# Altium schematic symbol library IDCConnectors.SchLib: 11 symbols
Pins are listed as number, name and electrical type; pins without a type are passive.

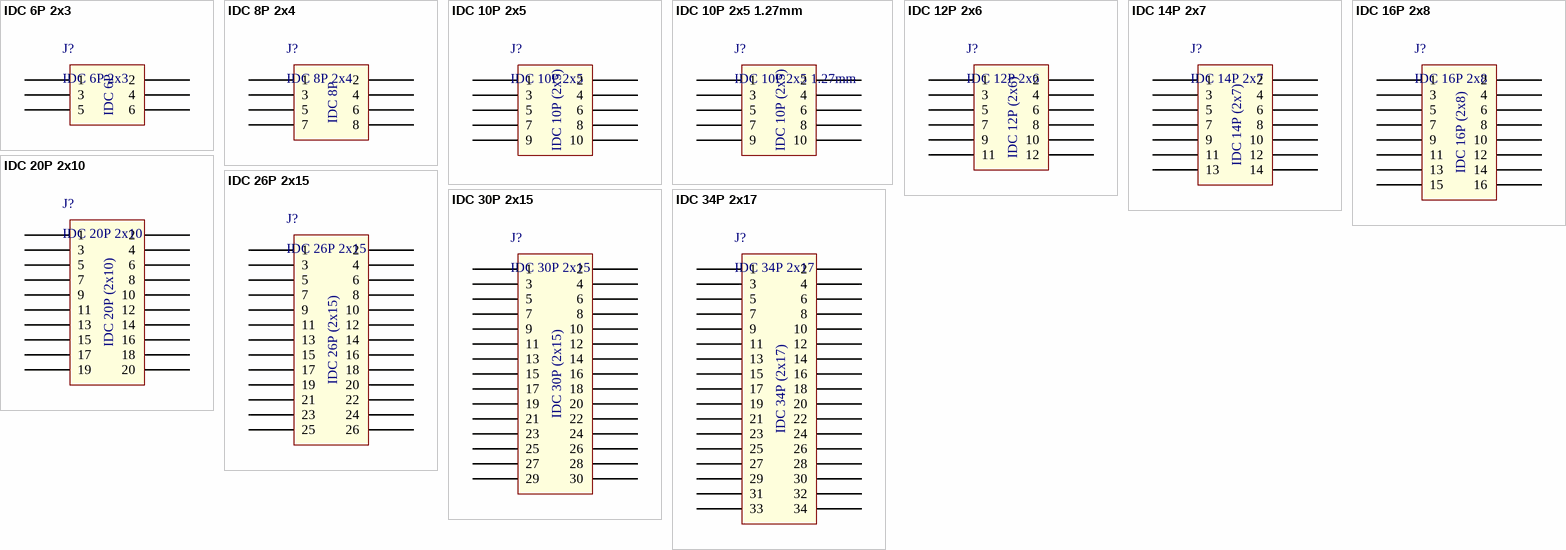
[diagram p0: symbols IDC 6P 2x3 to IDC 34P 2x17]

## IDC 6P 2x3
designator J?
footprint IDC 2.54MM 6P
pins: 1, 2, 3, 4, 5, 6
text: IDC 6P

## IDC 8P 2x4
designator J?
footprint IDC 2.54MM 8P
pins: 1, 2, 3, 4, 5, 6, 7, 8
text: IDC 8P

## IDC 10P 2x5
designator J?
footprint IDC 2.54MM 10P
pins: 1, 2, 3, 4, 5, 6, 7, 8, 9, 10
text: IDC 10P (2x5)

## IDC 10P 2x5 1.27mm
designator J?
footprint IDC 1.27MM 10P
pins: 1, 2, 3, 4, 5, 6, 7, 8, 9, 10
text: IDC 10P (2x5)

## IDC 12P 2x6
designator J?
pins: 1, 2, 3, 4, 5, 6, 7, 8, 9, 10, 11, 12
text: IDC 12P (2x6)

## IDC 14P 2x7
designator J?
pins: 1, 2, 3, 4, 5, 6, 7, 8, 9, 10, 11, 12, 13, 14
text: IDC 14P (2x7)

## IDC 16P 2x8
designator J?
pins: 1, 2, 3, 4, 5, 6, 7, 8, 9, 10, 11, 12, 13, 14, 15, 16
text: IDC 16P (2x8)

## IDC 20P 2x10
designator J?
pins: 1, 2, 3, 4, 5, 6, 7, 8, 9, 10, 11, 12, 13, 14, 15, 16, 17, 18, 19, 20
text: IDC 20P (2x10)

## IDC 26P 2x15
designator J?
pins: 1, 2, 3, 4, 5, 6, 7, 8, 9, 10, 11, 12, 13, 14, 15, 16, 17, 18, 19, 20, 21, 22, 23, 24, 25, 26
text: IDC 26P (2x15)

## IDC 30P 2x15
designator J?
pins: 1, 2, 3, 4, 5, 6, 7, 8, 9, 10, 11, 12, 13, 14, 15, 16, 17, 18, 19, 20, 21, 22, 23, 24, 25, 26, 27, 28, 29, 30
text: IDC 30P (2x15)

## IDC 34P 2x17
designator J?
pins: 1, 2, 3, 4, 5, 6, 7, 8, 9, 10, 11, 12, 13, 14, 15, 16, 17, 18, 19, 20, 21, 22, 23, 24, 25, 26, 27, 28, 29, 30, 31, 32, 33, 34
text: IDC 34P (2x17)